# Altium footprint library SMD2920.PcbLib: 1 footprints
Each footprint in its own frame and in the unit in brackets; x right, y up, seen from the top. Pads: shape width x height; smd on the part's side, far side on the other; paste and mask are expansions set on the pad; w line width, h text height; cw(c..) or ccw(c..) is an arc to the next point about the centre after c.
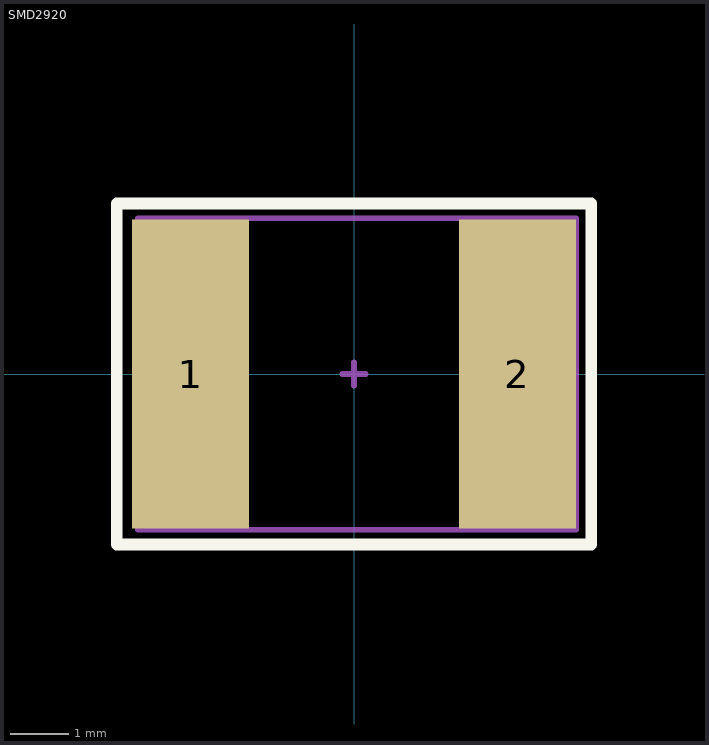
[diagram p0: the footprint, top view; thin cyan lines are the x and y axes]

## SMD2920 [mm] "Chip Fuse, 1812"
height 0.6
pads (2):
  rect 2x5.3 smd: 1(-2.8,0) 2(2.8,0)
Top Overlay:
  lines w0.2: -4.064,-2.921 4.064,-2.921 4.064,2.921 -4.064,2.921 -4.064,-2.921
Mechanical 1:
  lines w0.1: -2.41,-2.667 -2.41,2.667 2.41,2.667 2.41,-2.667 -2.41,-2.667
Mechanical 15:
  lines w0.1: -0.2,0 0.2,0 ; 0,-0.2 0,0.2 ; -3.7,-2.667 -3.7,2.667 3.8,2.667 3.8,-2.667 -3.7,-2.667
3D body: height 1.2, standoff 0, extent -3.7,-2.667 3.8,2.667